# Altium schematic symbol library CM2006.Schlib: 1 symbol
Pins are listed as number, name and electrical type; pins without a type are passive.

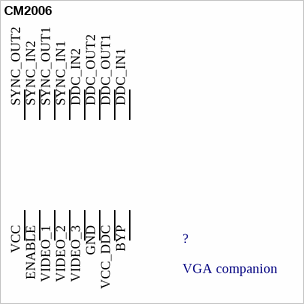
[diagram p0: symbol CM2006]

## CM2006
designator ?, comment VGA companion
footprint QSOP16
pins: BYP P$8, DDC_IN1 P$9, DDC_IN2 P$12, DDC_OUT1 P$10, DDC_OUT2 P$11, ENABLE P$2, GND P$6, SYNC_IN1 P$13, SYNC_IN2 P$15, SYNC_OUT1 P$14, SYNC_OUT2 P$16, VCC P$1, VCC_DDC P$7, VIDEO_1 P$3, VIDEO_2 P$4, VIDEO_3 P$5